# Altium footprint library WR-TBL_Spring Clamp_3.81mm.PcbLib: 50 footprints (part 3 of 4)
Each footprint in its own frame and in the unit in brackets; x right, y up, seen from the top. Pads: shape width x height; smd on the part's side, far side on the other; paste and mask are expansions set on the pad; w line width, h text height; cw(c..) or ccw(c..) is an arc to the next point about the centre after c.
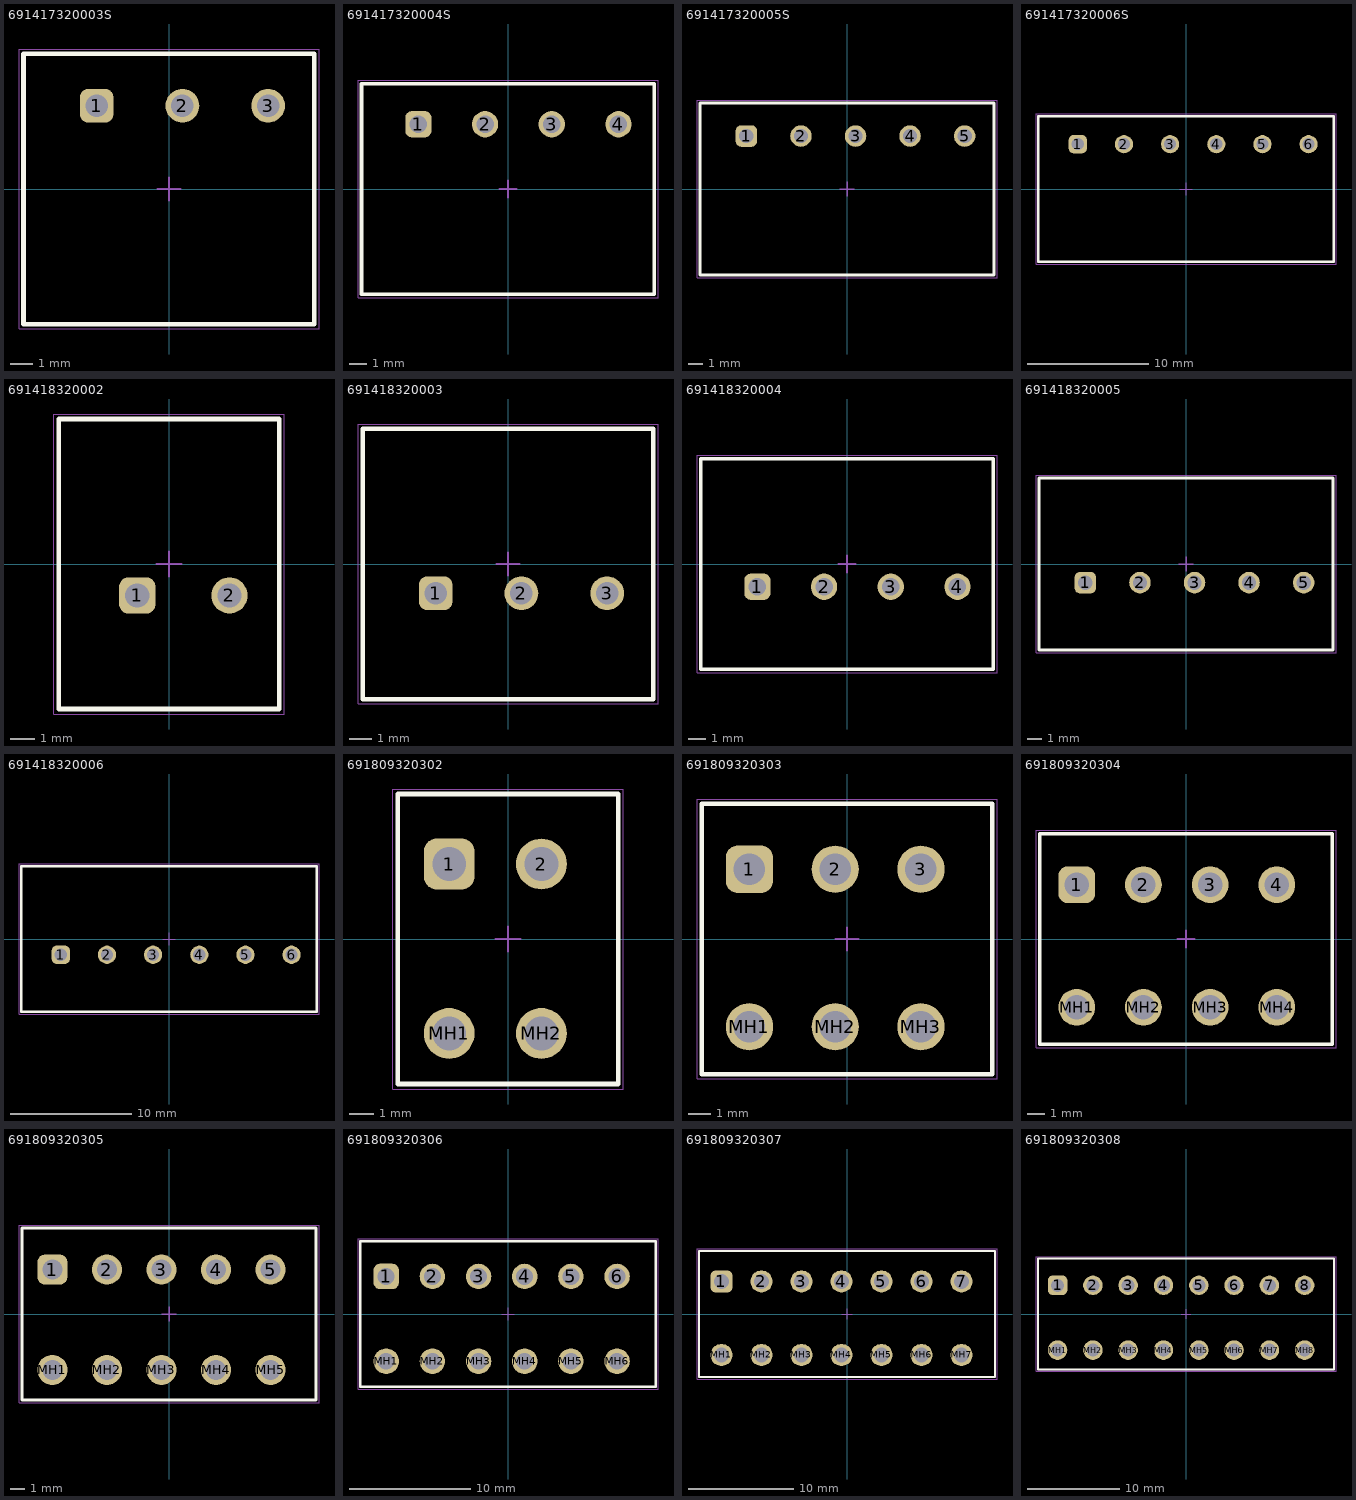
[diagram p2: the footprints below, top view; thin cyan lines are the x and y axes]

## 691417320003S [mm] "Serie 4713S-3.81mm 45¡ã Cable Entry Screwless, 3 pins"
height 13.2
pads (3):
  rrect50% 1.5x1.5 hole 1: 1(-3.215,3.7)
  round 1.5 hole 1: 2(0.595,3.7) 3(4.405,3.7)
Top Overlay:
  lines w0.2: -6.465,-6 6.465,-6 6.465,6 -6.465,6 -6.465,-6
Top Assembly:
  lines w0.1: -6.465,-6 -6.465,6 6.465,6 6.465,-6 -6.465,-6
Top Designator:
  text ".Designator" at -3.647,-0.357 h1
Top 3D Body:
  lines w0.1: -6.465,-6 6.465,-6 6.465,6 -6.465,6 -6.465,-6
Top Courtyard:
  lines w0.05: -6.665,-6.2 -6.665,6.2 6.665,6.2 6.665,-6.2 -6.665,-6.2
Top Component Center:
  lines w0.1: -0.5,0 0.5,0 ; 0,-0.5 0,0.5
3D body "691417320003S.stp": height 13.28, standoff -3.52, extent -6.465,-6 6.442,6

## 691417320004S [mm] "Serie 4713S-3.81mm 45¡ã Cable Entry Screwless, 4 pins"
height 13.2
pads (4):
  rrect50% 1.5x1.5 hole 1: 1(-5.12,3.7)
  round 1.5 hole 1: 2(-1.31,3.7) 3(2.5,3.7) 4(6.31,3.7)
Top Overlay:
  lines w0.2: -8.37,-6 8.37,-6 8.37,6 -8.37,6 -8.37,-6
Top Assembly:
  lines w0.1: -8.37,-6 -8.37,6 8.37,6 8.37,-6 -8.37,-6
Top Designator:
  text ".Designator" at -3.647,-0.357 h1
Top 3D Body:
  lines w0.1: -8.37,-6 8.37,-6 8.37,6 -8.37,6 -8.37,-6
Top Courtyard:
  lines w0.05: -8.57,-6.2 -8.57,6.2 8.57,6.2 8.57,-6.2 -8.57,-6.2
Top Component Center:
  lines w0.1: -0.5,0 0.5,0 ; 0,-0.5 0,0.5
3D body "691417320004S.stp": height 13.28, standoff -3.52, extent -8.37,-6 8.341,6

## 691417320005S [mm] "Serie 4713S-3.81mm 45¡ã Cable Entry Screwless, 5 pins"
height 13.2
pads (5):
  rrect50% 1.5x1.5 hole 1: 1(-7.025,3.7)
  round 1.5 hole 1: 2(-3.215,3.7) 3(0.595,3.7) 4(4.405,3.7) 5(8.215,3.7)
Top Overlay:
  lines w0.2: -10.275,-6 -10.275,6 10.275,6 10.275,-6 -10.275,-6
Top Assembly:
  lines w0.1: -10.275,-6 10.275,-6 10.275,6 -10.275,6 -10.275,-6
Top Designator:
  text ".Designator" at -3.647,-0.357 h1
Top 3D Body:
  lines w0.1: -10.275,-6 -10.275,6 10.275,6 10.275,-6 -10.275,-6
Top Courtyard:
  lines w0.05: -10.475,-6.2 10.475,-6.2 10.475,6.2 -10.475,6.2 -10.475,-6.2
Top Component Center:
  lines w0.1: -0.5,0 0.5,0 ; 0,-0.5 0,0.5
3D body "691417320005S.stp": height 13.28, standoff -3.52, extent -10.275,-6 10.239,6

## 691417320006S [mm] "Serie 4713S-3.81mm 45¡ã Cable Entry Screwless, 6 pins"
height 13.2
pads (6):
  rrect50% 1.5x1.5 hole 1: 1(-8.93,3.7)
  round 1.5 hole 1: 2(-5.12,3.7) 3(-1.31,3.7) 4(2.5,3.7) 5(6.31,3.7) 6(10.12,3.7)
Top Overlay:
  lines w0.2: -12.18,-6 -12.18,6 12.18,6 12.18,-6 -12.18,-6
Top Assembly:
  lines w0.1: -12.18,-6 12.18,-6 12.18,6 -12.18,6 -12.18,-6
Top Designator:
  text ".Designator" at -3.647,-0.357 h1
Top 3D Body:
  lines w0.1: -12.18,-6 -12.18,6 12.18,6 12.18,-6 -12.18,-6
Top Courtyard:
  lines w0.05: -12.38,-6.2 12.38,-6.2 12.38,6.2 -12.38,6.2 -12.38,-6.2
Top Component Center:
  lines w0.1: -0.5,0 0.5,0 ; 0,-0.5 0,0.5
3D body "691417320006S.stp": height 13.28, standoff -3.52, extent -12.18,-6 12.187,6

## 691418320002 [mm] "Serie 4183-3.81mm 45¡ã Cable Entry Screwless, 2 pins"
height 13.2
pads (2):
  rrect50% 1.5x1.5 hole 1: 1(-1.31,-1.3)
  round 1.5 hole 1: 2(2.5,-1.3)
Top Overlay:
  lines w0.2: -4.56,-6 4.56,-6 4.56,6 -4.56,6 -4.56,-6
Top Assembly:
  lines w0.1: -4.56,-6 -4.56,6 4.56,6 4.56,-6 -4.56,-6
Top Designator:
  text ".Designator" at -3.647,-0.357 h1
Top 3D Body:
  lines w0.1: -4.56,-6 4.56,-6 4.56,6 -4.56,6 -4.56,-6
Top Courtyard:
  lines w0.05: -4.76,-6.2 4.76,-6.2 4.76,6.2 -4.76,6.2 -4.76,-6.2
Top Component Center:
  lines w0.1: -0.5,0 0.5,0 ; 0,-0.5 0,0.5
3D body "691418320002.stp": height 13.28, standoff -3.52, extent -4.56,-6 4.56,6

## 691418320003 [mm] "Serie 4183-3.81mm 45¡ã Cable Entry Screwless, 3 pins"
height 13.2
pads (3):
  rrect50% 1.5x1.5 hole 1: 1(-3.215,-1.3)
  round 1.5 hole 1: 2(0.595,-1.3) 3(4.405,-1.3)
Top Overlay:
  lines w0.2: -6.465,-6 -6.465,6 6.465,6 6.465,-6 -6.465,-6
Top Assembly:
  lines w0.1: -6.465,-6 6.465,-6 6.465,6 -6.465,6 -6.465,-6
Top Designator:
  text ".Designator" at -3.647,-0.357 h1
Top 3D Body:
  lines w0.1: -6.465,-6 -6.465,6 6.465,6 6.465,-6 -6.465,-6
Top Courtyard:
  lines w0.05: -6.665,-6.2 -6.665,6.2 6.665,6.2 6.665,-6.2 -6.665,-6.2
Top Component Center:
  lines w0.1: -0.5,0 0.5,0 ; 0,-0.5 0,0.5
3D body "691418320003.stp": height 13.28, standoff -3.52, extent -6.465,-6 6.465,6

## 691418320004 [mm] "Serie 4183-3.81mm 45¡ã Cable Entry Screwless, 4 pins"
height 13.2
pads (4):
  rrect50% 1.5x1.5 hole 1: 1(-5.12,-1.3)
  round 1.5 hole 1: 2(-1.31,-1.3) 3(2.5,-1.3) 4(6.31,-1.3)
Top Overlay:
  lines w0.2: -8.37,-6 8.37,-6 8.37,6 -8.37,6 -8.37,-6
Top Assembly:
  lines w0.1: -8.37,-6 -8.37,6 8.37,6 8.37,-6 -8.37,-6
Top Designator:
  text ".Designator" at -3.647,-0.357 h1
Top 3D Body:
  lines w0.1: -8.37,-6 8.37,-6 8.37,6 -8.37,6 -8.37,-6
Top Courtyard:
  lines w0.05: -8.57,-6.2 8.57,-6.2 8.57,6.2 -8.57,6.2 -8.57,-6.2
Top Component Center:
  lines w0.1: -0.5,0 0.5,0 ; 0,-0.5 0,0.5
3D body "691418320004.stp": height 13.28, standoff -3.52, extent -8.37,-6 8.37,6

## 691418320005 [mm] "Serie 4183-3.81mm 45¡ã Cable Entry Screwless, 5 pins"
height 13.2
pads (5):
  rrect50% 1.5x1.5 hole 1: 1(-7.025,-1.3)
  round 1.5 hole 1: 2(-3.215,-1.3) 3(0.595,-1.3) 4(4.405,-1.3) 5(8.215,-1.3)
Top Overlay:
  lines w0.2: -10.275,-6 10.275,-6 10.275,6 -10.275,6 -10.275,-6
Top Assembly:
  lines w0.1: -10.275,-6 -10.275,6 10.275,6 10.275,-6 -10.275,-6
Top Designator:
  text ".Designator" at -3.647,-0.357 h1
Top 3D Body:
  lines w0.1: -10.275,-6 10.275,-6 10.275,6 -10.275,6 -10.275,-6
Top Courtyard:
  lines w0.05: -10.475,-6.2 10.475,-6.2 10.475,6.2 -10.475,6.2 -10.475,-6.2
Top Component Center:
  lines w0.1: -0.5,0 0.5,0 ; 0,-0.5 0,0.5
3D body "691418320005.stp": height 13.28, standoff -3.52, extent -10.275,-6 10.275,6

## 691418320006 [mm] "Serie 4183-3.81mm 45¡ã Cable Entry Screwless, 6 pins"
height 13.2
pads (6):
  rrect50% 1.5x1.5 hole 1: 1(-8.93,-1.3)
  round 1.5 hole 1: 2(-5.12,-1.3) 3(-1.31,-1.3) 4(2.5,-1.3) 5(6.31,-1.3) 6(10.12,-1.3)
Top Overlay:
  lines w0.2: -12.18,-6 12.18,-6 12.18,6 -12.18,6 -12.18,-6
Top Assembly:
  lines w0.1: -12.18,-6 -12.18,6 12.18,6 12.18,-6 -12.18,-6
Top Designator:
  text ".Designator" at -3.647,-0.357 h1
Top 3D Body:
  lines w0.1: -12.18,-6 12.18,-6 12.18,6 -12.18,6 -12.18,-6
Top Courtyard:
  lines w0.05: -12.38,-6.2 12.38,-6.2 12.38,6.2 -12.38,6.2 -12.38,-6.2
Top Component Center:
  lines w0.1: -0.5,0 0.5,0 ; 0,-0.5 0,0.5
3D body "691418320006.stp": height 13.28, standoff -3.52, extent -12.18,-6 12.18,6

## 691809320302 [mm] "Terminal Block, Black, THR, Screwless 45deg Entry, pitch 3.81mm, 2p"
height 12.2
pads (4):
  rrect50% 2.1x2.1 hole 1.4: 1(-2.43,3.1)
  round 2.1 hole 1.4: 2(1.38,3.1) MH1(-2.43,-3.9) MH2(1.38,-3.9)
Top Overlay:
  lines w0.2: -4.56,-6 -4.56,6 4.56,6 4.56,-6 -4.56,-6
Top Assembly:
  lines w0.1: -4.56,-6 -4.56,6 4.56,6 4.56,-6 -4.56,-6
Top Designator:
  text ".Designator" at -3.647,-0.357 h1
Top 3D Body:
  lines w0.1: -4.56,-6 -4.56,6 4.56,6 4.56,-6 -4.56,-6
Top Courtyard:
  lines w0.05: -4.76,-6.2 -4.76,6.2 4.76,6.2 4.76,-6.2 -4.76,-6.2
Top Component Center:
  lines w0.1: -0.5,0 0.5,0 ; 0,-0.5 0,0.5
3D body "691809320302.stp": height 12.38, standoff -2.55, extent -4.56,-6 4.59,6

## 691809320303 [mm] "Terminal Block, Black, THR, Screwless 45deg Entry, pitch 3.81mm, 3p"
height 12.2
pads (6):
  rrect50% 2.1x2.1 hole 1.4: 1(-4.335,3.1)
  round 2.1 hole 1.4: 2(-0.525,3.1) 3(3.285,3.1) MH1(-4.335,-3.9) MH2(-0.525,-3.9) MH3(3.285,-3.9)
Top Overlay:
  lines w0.2: -6.465,-6 -6.465,6 6.465,6 6.465,-6 -6.465,-6
Top Assembly:
  lines w0.1: -6.465,-6 -6.465,6 6.465,6 6.465,-6 -6.465,-6
Top Designator:
  text ".Designator" at -3.647,-0.357 h1
Top 3D Body:
  lines w0.1: -6.465,-6 -6.465,6 6.465,6 6.465,-6 -6.465,-6
Top Courtyard:
  lines w0.05: -6.665,-6.2 -6.665,6.2 6.665,6.2 6.665,-6.2 -6.665,-6.2
Top Component Center:
  lines w0.1: -0.5,0 0.5,0 ; 0,-0.5 0,0.5
3D body "691809320303.stp": height 12.38, standoff -2.55, extent -6.495,-6 6.465,6

## 691809320304 [mm] "Terminal Block, Black, THR, Screwless 45deg Entry, pitch 3.81mm, 4p"
height 12.2
pads (8):
  rrect50% 2.1x2.1 hole 1.4: 1(-6.24,3.1)
  round 2.1 hole 1.4: 2(-2.43,3.1) 3(1.38,3.1) 4(5.19,3.1) MH1(-6.24,-3.9) MH2(-2.43,-3.9) MH3(1.38,-3.9) MH4(5.19,-3.9)
Top Overlay:
  lines w0.2: -8.37,-6 8.37,-6 8.37,6 -8.37,6 -8.37,-6
Top Assembly:
  lines w0.1: -8.37,-6 8.37,-6 8.37,6 -8.37,6 -8.37,-6
Top Designator:
  text ".Designator" at -3.647,-0.357 h1
Top 3D Body:
  lines w0.1: -8.37,-6 8.37,-6 8.37,6 -8.37,6 -8.37,-6
Top Courtyard:
  lines w0.05: -8.57,-6.2 8.57,-6.2 8.57,6.2 -8.57,6.2 -8.57,-6.2
Top Component Center:
  lines w0.1: -0.5,0 0.5,0 ; 0,-0.5 0,0.5
3D body "691809320304.stp": height 12.38, standoff -2.55, extent -8.4,-6 8.37,6

## 691809320305 [mm] "Terminal Block, Black, THR, Screwless 45deg Entry, pitch 3.81mm, 5p"
height 12.2
pads (10):
  rrect50% 2.1x2.1 hole 1.4: 1(-8.145,3.1)
  round 2.1 hole 1.4: 2(-4.335,3.1) 3(-0.525,3.1) 4(3.285,3.1) 5(7.095,3.1) MH1(-8.145,-3.9) MH2(-4.335,-3.9) MH3(-0.525,-3.9) MH4(3.285,-3.9) MH5(7.095,-3.9)
Top Overlay:
  lines w0.2: -10.275,-6 10.275,-6 10.275,6 -10.275,6 -10.275,-6
Top Assembly:
  lines w0.1: -10.275,-6 10.275,-6 10.275,6 -10.275,6 -10.275,-6
Top Designator:
  text ".Designator" at -3.647,-0.357 h1
Top 3D Body:
  lines w0.1: -10.275,-6 10.275,-6 10.275,6 -10.275,6 -10.275,-6
Top Courtyard:
  lines w0.05: -10.475,-6.2 10.475,-6.2 10.475,6.2 -10.475,6.2 -10.475,-6.2
Top Component Center:
  lines w0.1: -0.5,0 0.5,0 ; 0,-0.5 0,0.5
3D body "691809320305.stp": height 12.38, standoff -2.55, extent -10.305,-6 10.275,6

## 691809320306 [mm] "Terminal Block, Black, THR, Screwless 45deg Entry, pitch 3.81mm, 6p"
height 12.2
pads (12):
  rrect50% 2.1x2.1 hole 1.4: 1(-10.05,3.1)
  round 2.1 hole 1.4: 2(-6.24,3.1) 3(-2.43,3.1) 4(1.38,3.1) 5(5.19,3.1) 6(9,3.1) MH1(-10.05,-3.9) MH2(-6.24,-3.9) MH3(-2.43,-3.9) MH4(1.38,-3.9) MH5(5.19,-3.9) MH6(9,-3.9)
Top Overlay:
  lines w0.2: -12.18,-6 -12.18,6 12.18,6 12.18,-6 -12.18,-6
Top Assembly:
  lines w0.1: -12.18,-6 -12.18,6 12.18,6 12.18,-6 -12.18,-6
Top Designator:
  text ".Designator" at -3.647,-0.357 h1
Top 3D Body:
  lines w0.1: -12.18,-6 -12.18,6 12.18,6 12.18,-6 -12.18,-6
Top Courtyard:
  lines w0.05: -12.38,-6.2 -12.38,6.2 12.38,6.2 12.38,-6.2 -12.38,-6.2
Top Component Center:
  lines w0.1: -0.5,0 0.5,0 ; 0,-0.5 0,0.5
3D body "691809320306.stp": height 12.38, standoff -2.55, extent -12.21,-6 12.18,6

## 691809320307 [mm] "Terminal Block, Black, THR, Screwless 45deg Entry, pitch 3.81mm, 7p"
height 12.2
pads (14):
  rrect50% 2.1x2.1 hole 1.4: 1(-11.955,3.1)
  round 2.1 hole 1.4: 2(-8.145,3.1) 3(-4.335,3.1) 4(-0.525,3.1) 5(3.285,3.1) 6(7.095,3.1) 7(10.905,3.1) MH1(-11.955,-3.9) MH2(-8.145,-3.9) MH3(-4.335,-3.9) MH4(-0.525,-3.9) MH5(3.285,-3.9) MH6(7.095,-3.9) MH7(10.905,-3.9)
Top Overlay:
  lines w0.2: -14.085,-6 14.085,-6 14.085,6 -14.085,6 -14.085,-6
Top Assembly:
  lines w0.1: -14.085,-6 14.085,-6 14.085,6 -14.085,6 -14.085,-6
Top Designator:
  text ".Designator" at -3.647,-0.357 h1
Top 3D Body:
  lines w0.1: -14.085,-6 14.085,-6 14.085,6 -14.085,6 -14.085,-6
Top Courtyard:
  lines w0.05: -14.285,-6.2 14.285,-6.2 14.285,6.2 -14.285,6.2 -14.285,-6.2
Top Component Center:
  lines w0.1: -0.5,0 0.5,0 ; 0,-0.5 0,0.5
3D body "691809320307.stp": height 12.38, standoff -2.55, extent -14.115,-6 14.085,6

## 691809320308 [mm] "Terminal Block, Black, THR, Screwless 45deg Entry, pitch 3.81mm, 8p"
height 12.2
pads (16):
  rrect50% 2.1x2.1 hole 1.4: 1(-13.86,3.1)
  round 2.1 hole 1.4: 2(-10.05,3.1) 3(-6.24,3.1) 4(-2.43,3.1) 5(1.38,3.1) 6(5.19,3.1) 7(9,3.1) 8(12.81,3.1) MH1(-13.86,-3.9) MH2(-10.05,-3.9) MH3(-6.24,-3.9) MH4(-2.43,-3.9) MH5(1.38,-3.9) MH6(5.19,-3.9) MH7(9,-3.9) MH8(12.81,-3.9)
Top Overlay:
  lines w0.2: -15.99,-6 15.99,-6 15.99,6 -15.99,6 -15.99,-6
Top Assembly:
  lines w0.1: -15.99,-6 15.99,-6 15.99,6 -15.99,6 -15.99,-6
Top Designator:
  text ".Designator" at -3.647,-0.357 h1
Top 3D Body:
  lines w0.1: -15.99,-6 15.99,-6 15.99,6 -15.99,6 -15.99,-6
Top Courtyard:
  lines w0.05: -16.19,-6.2 16.19,-6.2 16.19,6.2 -16.19,6.2 -16.19,-6.2
Top Component Center:
  lines w0.1: -0.5,0 0.5,0 ; 0,-0.5 0,0.5
3D body "691809320308.stp": height 12.38, standoff -2.55, extent -16.02,-6 15.99,6